# Altium footprint library Base_Library.PcbLib: 3 footprints
Each footprint in its own frame and in the unit in brackets; x right, y up, seen from the top. Pads: shape width x height; smd on the part's side, far side on the other; paste and mask are expansions set on the pad; w line width, h text height; cw(c..) or ccw(c..) is an arc to the next point about the centre after c.
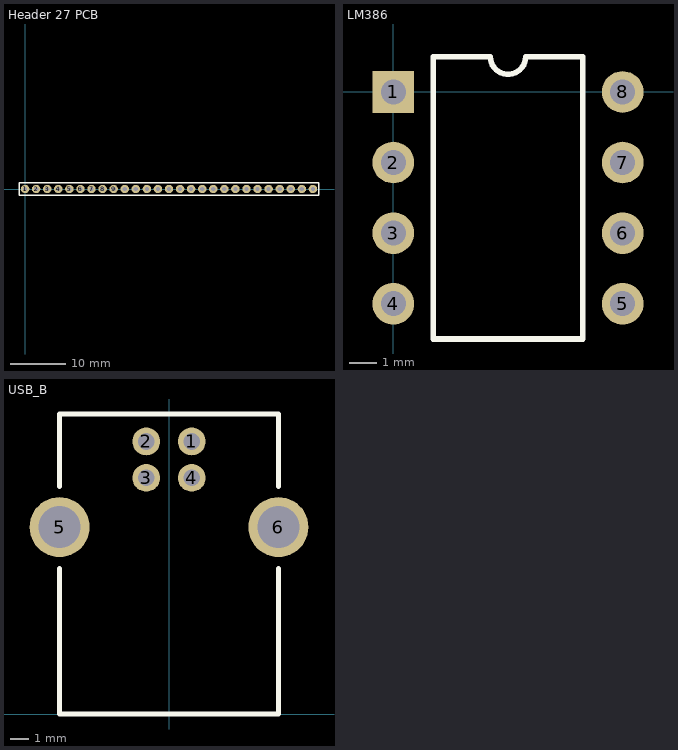
[diagram p0: the footprints below, top view; thin cyan lines are the x and y axes]

## Header 27 PCB [mil] "Heades de 27 pines una fila"
pads (27):
  round 60 hole 30: 1(0,0) 2(78.74,0) 3(157.48,0) 4(236.22,0) 5(314.96,0) 6(393.7,0) 7(472.44,0) 8(551.18,0) 9(629.92,0) 10(708.66,0) 11(787.4,0) 12(866.14,0) 13(944.88,0) 14(1023.62,0) 15(1102.36,0) 16(1181.1,0) 17(1259.84,0) 18(1338.58,0) 19(1417.32,0) 20(1496.06,0) 21(1574.8,0) 22(1653.54,0) 23(1732.28,0) 24(1811.02,0) 25(1889.76,0) 26(1968.5,0) 26(2047.24,0)
Top Overlay:
  lines w10: -43.31,-43.31 -43.31,43.31 2090.55,43.31 2090.55,-43.31 -43.31,-43.31

## LM386 [mm]
pads (8):
  rect 1.5x1.5 hole 0.9: 1(0,0)
  round 1.5 hole 0.9: 2(0,-2.54) 3(0,-5.08) 4(0,-7.62) 5(8.252,-7.62) 6(8.252,-5.08) 7(8.252,-2.54) 8(8.252,0)
Top Overlay:
  lines w0.2: 1.435,-8.89 1.435,1.27 3.491,1.27 ccw(c4.126,1.27) 4.761,1.27 6.817,1.27 6.817,-8.89 1.435,-8.89

## USB_B [mm] "CONECTOR USB TIPO B ANG RECTO DIP"
pads (6):
  round 1.524 hole 0.92: 1(1.25,14.99) 2(-1.25,14.99) 3(-1.25,12.99) 4(1.25,12.99)
  round 3.3 hole 2.3: 5(-6.02,10.28) 6(6.02,10.28)
Top Overlay:
  lines w0.254: -6.02,8 -6.02,0 6.02,0 6.02,8 ; -6.02,12.5 -6.02,16.5 6.02,16.5 6.02,12.5